# Altium footprint library 8-PowerSOIC.PcbLib: 1 footprints
Each footprint in its own frame and in the unit in brackets; x right, y up, seen from the top. Pads: shape width x height; smd on the part's side, far side on the other; paste and mask are expansions set on the pad; w line width, h text height; cw(c..) or ccw(c..) is an arc to the next point about the centre after c.
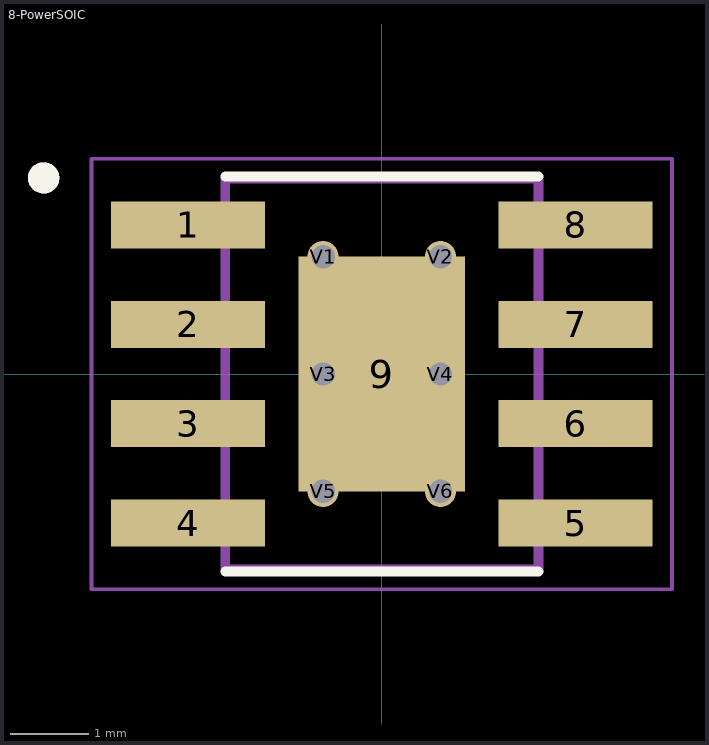
[diagram p0: the footprint, top view; thin cyan lines are the x and y axes]

## 8-PowerSOIC [mm]
pads (15):
  rect 1.97x0.6 smd: 1(-2.475,1.905) 2(-2.475,0.635) 3(-2.475,-0.635) 4(-2.475,-1.905) 5(2.475,-1.905) 6(2.475,-0.635) 7(2.475,0.635) 8(2.475,1.905)
  rect 2.13x3 smd: 9(0,0)
  round 0.4 hole 0.3: V1(-0.75,1.5) V2(0.75,1.5) V3(-0.75,0) V4(0.75,0) V5(-0.75,-1.5) V6(0.75,-1.5)
Top Overlay:
  circle w0.2: c-4.32,2.505 r0.1
  lines w0.127: -2,-2.525 2,-2.525 ; -2,2.525 2,2.525
Top Paste:
  region: 0.12,-0.12 0.82,-0.12 0.82,-1.26 0.12,-1.26
  region: -0.82,-0.12 -0.12,-0.12 -0.12,-1.26 -0.82,-1.26
  region: 0.12,1.26 0.82,1.26 0.82,0.12 0.12,0.12
  region: -0.82,1.26 -0.12,1.26 -0.12,0.12 -0.82,0.12
Top Solder:
  region: -1.47,2.445 1.47,2.445 1.47,-2.445 -1.47,-2.445
Mechanical 4:
  circle w0.2: c-4.32,2.505 r0.1
  circle w0.2: c-4.32,2.505 r0.1
  lines w0.127: -2,-2.5 -2,2.5 ; -2,-2.5 2,-2.5 ; -2,-2.5 -2,2.5 ; -2,-2.5 2,-2.5 ; -2,2.5 2,2.5 ; -2,2.5 2,2.5 ; 2,-2.5 2,2.5 ; 2,-2.5 2,2.5
Mechanical 15:
  lines w0.05: -3.71,-2.75 -3.71,2.75 3.71,2.75 3.71,-2.75 -3.71,-2.75
3D body "8-SOIC.step": height 1.68, standoff -0.05, extent -3.099,-2.489 3.099,2.489